# Altium integrated library Linear Technology Power Management Switching Regulator LTC1174-LTC3901.IntLib: 2647 symbols (part 256 of 364)
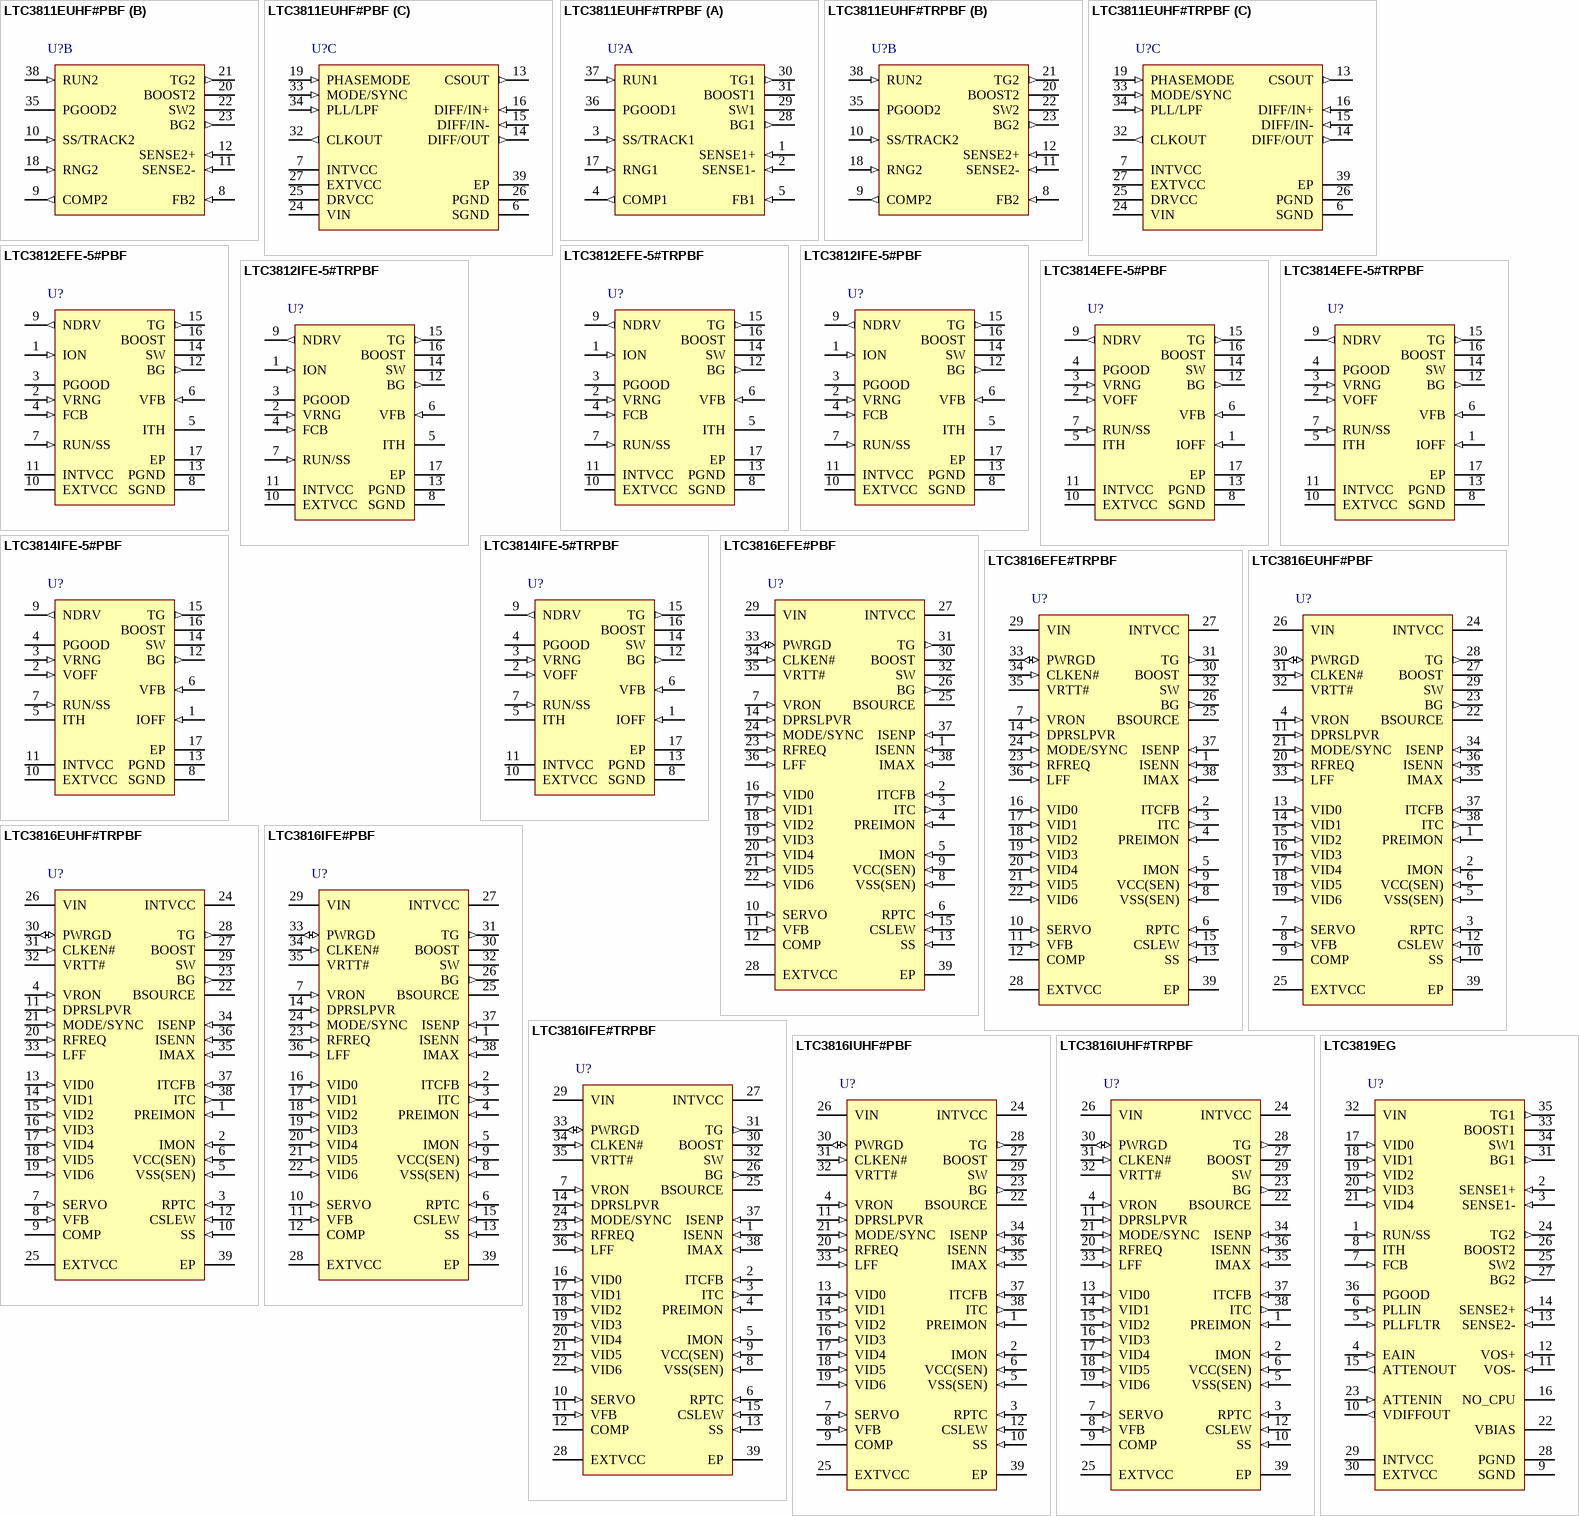
[diagram p347: symbols LTC3811EUHF#PBF to LTC3819EG]

## LTC3814EFE-5#PBF
designator U?
Current Mode Synchronous Step-Up Controller, 16-pin SOP (FE-16-EPV-BA), -40 to 125 degC, Pb-Free; Manufacturer: Linear Technology; PartNumber: LTC3814EFE-5#PBF; Frequency Sync Range: 100kHz - 1MHz; Number of Outputs: 1; DatasheetVersion: Rev. C; PackageVersion: Rev. I, 05/2011; PackageReference: FE-16; PackageDescription: 16-Pin Plastic TSSOP, Body 5 x 4.4 mm, Pitch 0.65 mm; Supplier 1: Digi-Key; Supplier Part Number 1: LTC3814EFE-5#PBF-ND; Supplier 2: Farnell; Supplier Part Number 2: 2295156; Supplier 3: Newark; Supplier Part Number 3: 56M8504; RoHS: TRUE; Mounting Technology: Surface Mount; ComponentLink1Description: Manufacturer URL; ComponentLink1URL: http://www.linear.com/; ComponentLink2Description: Datasheet; ComponentLink2URL: http://cds.linear.com/docs/en/datasheet/38145fc.pdf; ComponentLink3Description: Package Specification; ComponentLink3URL: http://cds.linear.com/docs/en/packaging/05081663_J_FE16(BA).pdf
footprint LT-FE-16-EPV-BA_N (SOP, 16-Leads, Body 5x4.4mm, Pitch 0.65mm, Thermal Pad 2.74x2.74mm, IPC Medium Density)
footprint LT-FE-16-EPV-BA_L (SOP, 16-Leads, Body 5x4.4mm, Pitch 0.65mm, Thermal Pad 2.74x2.74mm, IPC High Density)
footprint LT-FE-16-EPV-BA_M (SOP, 16-Leads, Body 5x4.4mm, Pitch 0.65mm, Thermal Pad 2.74x2.74mm, IPC Low Density)
pins: 1 IOFF (in) "Off-Time Current Input. Tie a resistor from VOUT to this pin to set the one-shot timer current and thereby set the switching frequency.", 2 VOFF (in) "Off-Time Voltage Input. Voltage trip point for the on-time comparator. Tying this pin to an external resistive divider from the input makes the off-time proportional to VIN. The comparator defaults to 0.7V when the pin is (See Datasheet)", 3 VRNG (in) "Sense Voltage Limit Set. The voltage at this pin sets the nominal sense voltage at maximum output current and can be set from 0.5V to 2V by a resistive divider from INTVCC. The nominal sense voltage defaults to 95mV when (See Datasheet)", 4 PGOOD (oc) "Power Good Output. Open-drain logic output that is pulled to ground when the output voltage is not between +/-10% of the regulation point. The output voltage must be out of regulation for at least 125us before the power good (See Datasheet)", 5 ITH "Error Amplifier Compensation Point and Current Control Threshold. The current comparator threshold increases with control voltage. The voltage ranges from 0V to 2.6V with 1.2V corresponding to zero sense voltage (zero (See Datasheet)", 6 VFB (in) "Feedback Input. Connect VFB through a resistor divider network to VOUT to set the output voltage.", 7 RUN/SS (in) "RUN/Soft-Start Input. For soft-start, a capacitor to ground at this pin sets the ramp rate of the maximum current sense threshold. Pulling this pin below 0.9V will shut down the LTC3814-5, turn off both of the external (See Datasheet)", 8 SGND (power) "Signal Ground. All small-signal components should connect to this ground and eventually connect to PGND at one point.", 9 NDRV (out) "Drive Output for External Pass Device of the Linear Regulator for INTVCC. Connect to the gate of an external NMOS pass device and a pull-up resistor to the input voltage VIN or the output voltage VOUT.", 10 EXTVCC (power) "External Driver Supply Voltage. When this voltage exceeds 4.7V, an internal switch connects this pin to INTVCC through an LDO and turns off the external MOSFET connected to NDRV, so that controller and gate drive are drawn (See Datasheet)", 11 INTVCC (power) "Main Supply and Driver Supply Pin. All internal circuits and bottom gate output driver are powered from this pin. INTVCC should be bypassed to SGND and PGND with a low ESR (X5R or better) 1uF capacitor in close proximity to (See Datasheet)", 12 BG (out) "Bottom Gate Drive. The BG pin drives the gate of the bottom N-channel main switch MOSFET. This pin swings from PGND to INTVCC.", 13 PGND (power) "Bottom Gate Return. This pin connects to the source of the pull-down MOSFET in the BG driver and is normally connected to ground.", 14 SW "Switch Node Connection to Inductor and Bootstrap Capacitor. Voltage swing at this pin is from a Schottky diode (external) voltage drop below ground to VOUT.", 15 TG (out) "Top Gate Drive. The TG pin drives the gate of the top N-channel synchronous switch MOSFET. The TG driver draws power from the BOOST pin and returns to the SW pin, providing true floating drive to the top MOSFET.", 16 BOOST "Top Gate Driver Supply. The BOOST pin supplies power to the floating TG driver. BOOST should be bypassed to SW with a low ESR (X5R or better) 0.1uF capacitor. An additional fast recovery diode from INTVCC to the BOOST pin (See Datasheet)", 17 EP (power) "Ground. The Exposed Pad must be soldered to PCB ground."

## LTC3814EFE-5#TRPBF
designator U?
Current Mode Synchronous Step-Up Controller, 16-pin SOP (FE-16-EPV-BA), -40 to 125 degC, Pb-Free, Tape and Reel; Manufacturer: Linear Technology; PartNumber: LTC3814EFE-5#TRPBF; Frequency Sync Range: 100kHz - 1MHz; Number of Outputs: 1; DatasheetVersion: Rev. C; PackageVersion: Rev. I, 05/2011; PackageReference: FE-16; PackageDescription: 16-Pin Plastic TSSOP, Body 5 x 4.4 mm, Pitch 0.65 mm; Supplier 1: Digi-Key; Supplier Part Number 1: LTC3814EFE-5#TRPBF-ND; Packing: Tape and Reel; RoHS: TRUE; Mounting Technology: Surface Mount; ComponentLink1Description: Manufacturer URL; ComponentLink1URL: http://www.linear.com/; ComponentLink2Description: Datasheet; ComponentLink2URL: http://cds.linear.com/docs/en/datasheet/38145fc.pdf; ComponentLink3Description: Package Specification; ComponentLink3URL: http://cds.linear.com/docs/en/packaging/05081663_J_FE16(BA).pdf
footprint LT-FE-16-EPV-BA_N (SOP, 16-Leads, Body 5x4.4mm, Pitch 0.65mm, Thermal Pad 2.74x2.74mm, IPC Medium Density)
footprint LT-FE-16-EPV-BA_L (SOP, 16-Leads, Body 5x4.4mm, Pitch 0.65mm, Thermal Pad 2.74x2.74mm, IPC High Density)
footprint LT-FE-16-EPV-BA_M (SOP, 16-Leads, Body 5x4.4mm, Pitch 0.65mm, Thermal Pad 2.74x2.74mm, IPC Low Density)
pins: 1 IOFF (in) "Off-Time Current Input. Tie a resistor from VOUT to this pin to set the one-shot timer current and thereby set the switching frequency.", 2 VOFF (in) "Off-Time Voltage Input. Voltage trip point for the on-time comparator. Tying this pin to an external resistive divider from the input makes the off-time proportional to VIN. The comparator defaults to 0.7V when the pin is (See Datasheet)", 3 VRNG (in) "Sense Voltage Limit Set. The voltage at this pin sets the nominal sense voltage at maximum output current and can be set from 0.5V to 2V by a resistive divider from INTVCC. The nominal sense voltage defaults to 95mV when (See Datasheet)", 4 PGOOD (oc) "Power Good Output. Open-drain logic output that is pulled to ground when the output voltage is not between +/-10% of the regulation point. The output voltage must be out of regulation for at least 125us before the power good (See Datasheet)", 5 ITH "Error Amplifier Compensation Point and Current Control Threshold. The current comparator threshold increases with control voltage. The voltage ranges from 0V to 2.6V with 1.2V corresponding to zero sense voltage (zero (See Datasheet)", 6 VFB (in) "Feedback Input. Connect VFB through a resistor divider network to VOUT to set the output voltage.", 7 RUN/SS (in) "RUN/Soft-Start Input. For soft-start, a capacitor to ground at this pin sets the ramp rate of the maximum current sense threshold. Pulling this pin below 0.9V will shut down the LTC3814-5, turn off both of the external (See Datasheet)", 8 SGND (power) "Signal Ground. All small-signal components should connect to this ground and eventually connect to PGND at one point.", 9 NDRV (out) "Drive Output for External Pass Device of the Linear Regulator for INTVCC. Connect to the gate of an external NMOS pass device and a pull-up resistor to the input voltage VIN or the output voltage VOUT.", 10 EXTVCC (power) "External Driver Supply Voltage. When this voltage exceeds 4.7V, an internal switch connects this pin to INTVCC through an LDO and turns off the external MOSFET connected to NDRV, so that controller and gate drive are drawn (See Datasheet)", 11 INTVCC (power) "Main Supply and Driver Supply Pin. All internal circuits and bottom gate output driver are powered from this pin. INTVCC should be bypassed to SGND and PGND with a low ESR (X5R or better) 1uF capacitor in close proximity to (See Datasheet)", 12 BG (out) "Bottom Gate Drive. The BG pin drives the gate of the bottom N-channel main switch MOSFET. This pin swings from PGND to INTVCC.", 13 PGND (power) "Bottom Gate Return. This pin connects to the source of the pull-down MOSFET in the BG driver and is normally connected to ground.", 14 SW "Switch Node Connection to Inductor and Bootstrap Capacitor. Voltage swing at this pin is from a Schottky diode (external) voltage drop below ground to VOUT.", 15 TG (out) "Top Gate Drive. The TG pin drives the gate of the top N-channel synchronous switch MOSFET. The TG driver draws power from the BOOST pin and returns to the SW pin, providing true floating drive to the top MOSFET.", 16 BOOST "Top Gate Driver Supply. The BOOST pin supplies power to the floating TG driver. BOOST should be bypassed to SW with a low ESR (X5R or better) 0.1uF capacitor. An additional fast recovery diode from INTVCC to the BOOST pin (See Datasheet)", 17 EP (power) "Ground. The Exposed Pad must be soldered to PCB ground."